# Altium schematic symbol library J SCH lib.SchLib: 465 symbols (part 4 of 5)
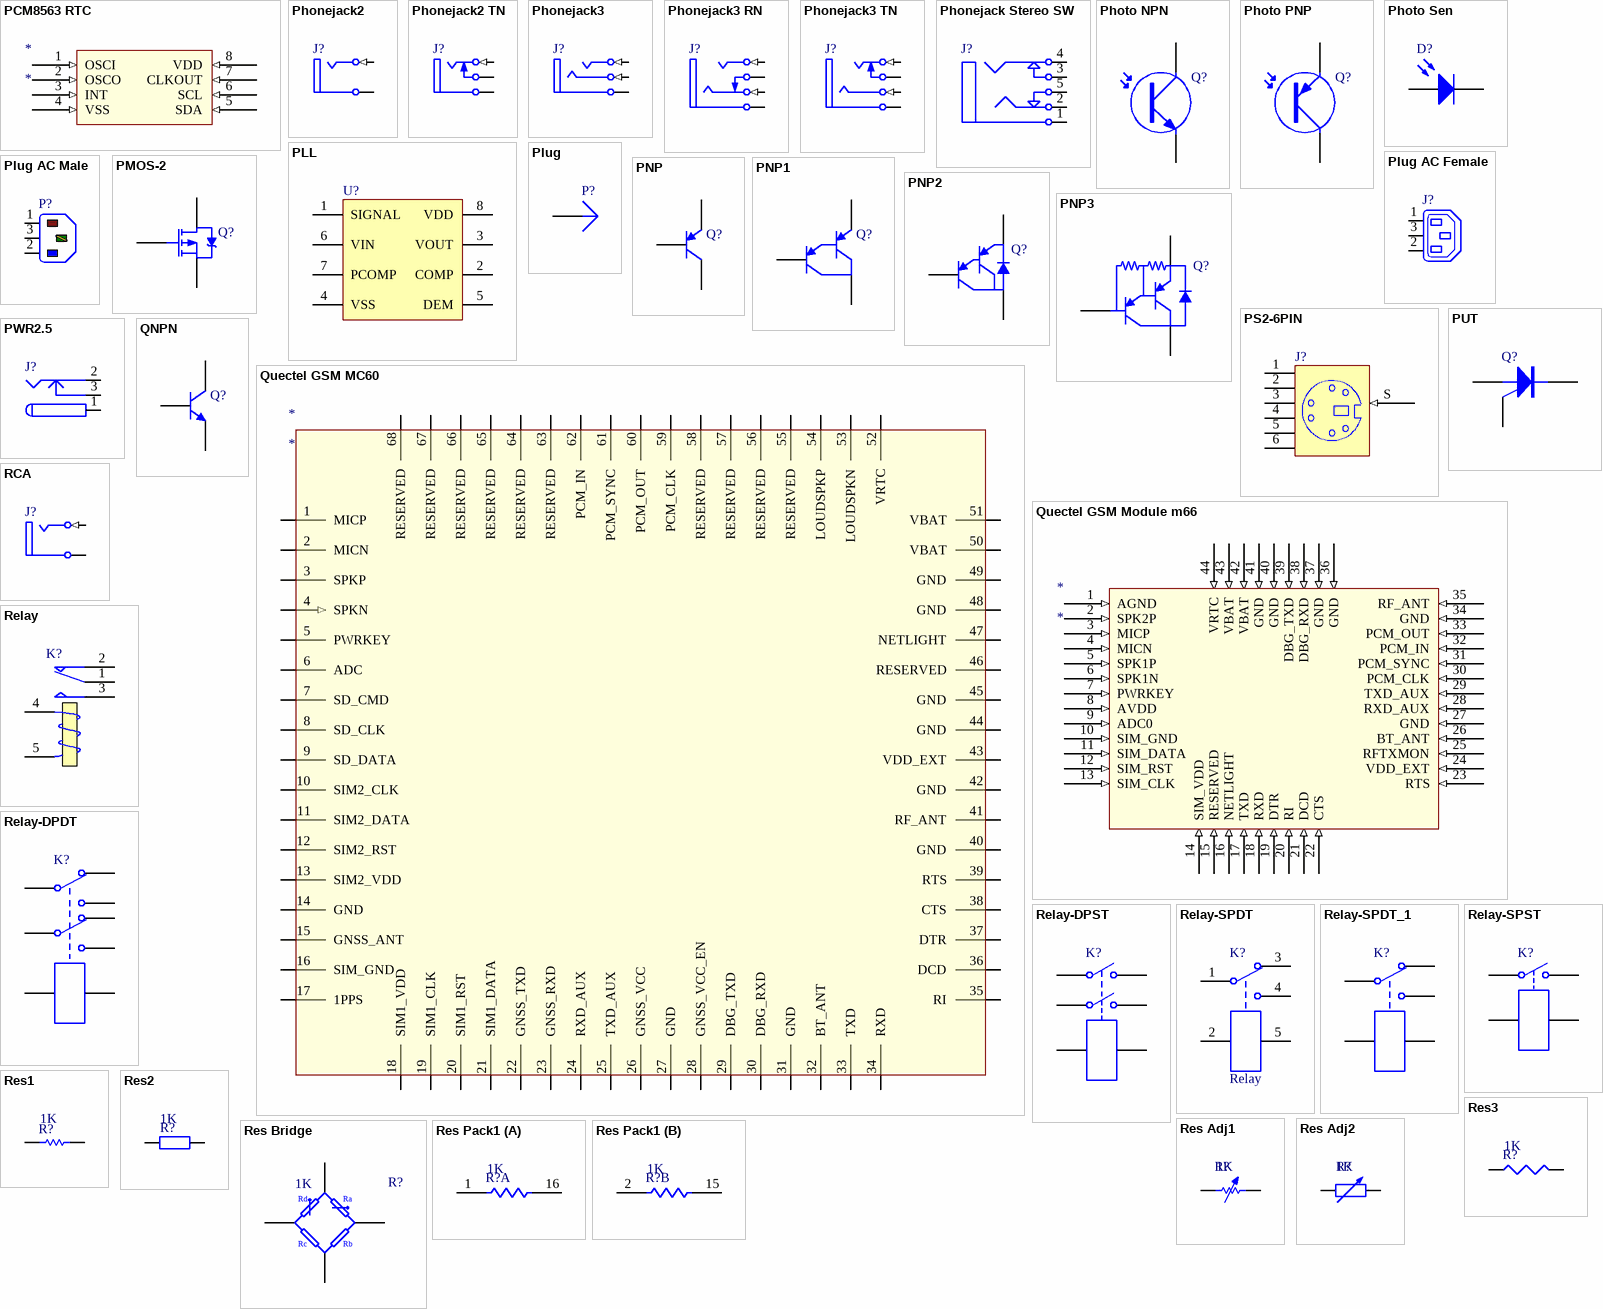
[diagram p18: symbols PCM8563 RTC to Res Pack1]

## Phonejack2 TN
designator J?
Jack Socket, 1/4" [6.5mm], Thru-Hole, Vertical, 2-Conductor with Tip closed; PackageDocument: 2003; PCB_Layout: Complies with manufacturer's recommendation.; DrillAndSlotSize: Corresponds to nominal value.; LatestRevisionDate: 15-Jul-2004; LatestRevisionNote: Component Replaced & renamed from "Phonejack".; DatasheetDocument: 2003; PackageReference: S1VS_SNB; Publisher: Altium Limited; ComponentLink1Description: Manufacturer Link; ComponentLink1URL: http://www.cliffuk.co.uk/
footprint JACK/6-V3A (Connector; Jack Socket, 1/4" [6.5mm], Thru-Hole, 3 Position, Vertical, Body 15.7 x 15.7 x 31 mm (WxTxH))
signal-integrity model JACK Socket
pins: 1 T (in) "Tip", 2 TN "Tip Normal (Break Contact)", 5 S (power) "Sleeve (Ground)"

## Phonejack3
designator J?
Jack Socket, 1/4" [6.5mm], Thru-Hole, Vertical, 3-Conductor Open Circuit (Non-Normalling); PackageDocument: 2003; PCB_Layout: Complies with manufacturer's recommendation.; DrillAndSlotSize: Corresponds to nominal value.; Published: 15-Jul-2004; LatestRevisionDate: 15-Jul-2004; LatestRevisionNote: Component Replaced.; DatasheetDocument: 2003; PackageReference: S1VS_SSS; Publisher: Altium Limited; ComponentLink1Description: Manufacturer Link; ComponentLink1URL: http://www.cliffuk.co.uk/
footprint JACK/6-V3 (Connector; Jack Socket, 1/4" [6.5mm], Thru-Hole, 3 Position, Vertical, Body 15.7 x 15.7 x 31 mm (WxTxH))
signal-integrity model JACK Socket
pins: 1 T (in) "Tip/Left Channel/(+)", 3 R (in) "Ring/Right Channel/(-)", 5 S (power) "Sleeve (Ground)"

## Phonejack3 RN
designator J?
Jack Socket, 1/4" [6.5mm], Thru-Hole, Vertical, 3-Conductor with Tip open & Ring closed; PackageDocument: 2003; PCB_Layout: Complies with manufacturer's recommendation.; DrillAndSlotSize: Corresponds to nominal value.; Published: 15-Jul-2004; DatasheetDocument: 2003; PackageReference: S1VS_SBS; Publisher: Altium Limited; ComponentLink1Description: Manufacturer Link; ComponentLink1URL: http://www.cliffuk.co.uk/
footprint JACK/6-V4A (Connector; Jack Socket, 1/4" [6.5mm], Thru-Hole, 4 Position, Vertical, Body 15.7 x 15.7 x 31 mm (WxTxH))
signal-integrity model JACK Socket
pins: 1 T (in) "Tip/Left Channel/(+)", 3 R (in) "Ring/Right Channel/(-)", 4 RN "Ring Normal (Break Contact)", 5 S (power) "Sleeve (Ground)"

## Phonejack3 TN
designator J?
Jack Socket, 1/4" [6.5mm], Thru-Hole, Vertical, 3-Conductor with Tip closed & Ring open; PackageDocument: 2003; PCB_Layout: Complies with manufacturer's recommendation.; DrillAndSlotSize: Corresponds to nominal value.; Published: 15-Jul-2004; DatasheetDocument: 2003; PackageReference: S1VS_SSB; Publisher: Altium Limited; ComponentLink1Description: Manufacturer Link; ComponentLink1URL: http://www.cliffuk.co.uk/
footprint JACK/6-V4 (Connector; Jack Socket, 1/4" [6.5mm], Thru-Hole, 4 Position, Vertical, Body 15.7 x 15.7 x 31 mm (WxTxH))
signal-integrity model JACK Socket
pins: 1 T (in) "Tip/Left Channel/(+)", 2 TN "Tip Normal (Break Contact)", 3 R (in) "Ring/Right Channel/(-)", 5 S (power) "Sleeve (Ground)"

## Phonejack Stereo SW
designator J?
3-Conductor Jack with 2 break contacts (normals) and 2 auxiliary make contacts; Published: 5-Jan-2004; LatestRevisionDate: 17-Dec-2003; LatestRevisionNote: PCB Footprint replaced.; DatasheetDocument: 07-Mar-2000; Publisher: Altium Limited; ComponentLink1Description: Manufacturer Link; ComponentLink1URL: http://domino.kycon.com/internet/Products.html
footprint ST-3150-5N (Connector; Stereo Jack, 3.5mm, 5 Position)
signal-integrity model Connector
pins: 1, 1A, 1B, 2, 2A, 2B, 3, 3A, 3B, 4, 4A, 4B, 5, 5A, 5B

## Photo NPN
designator Q?
NPN Phototransistor; Published: 24-Mar-1999; LatestRevisionDate: 17-Jul-2002; LatestRevisionNote: Re-released for DXP Platform.; PackageReference: TO-220_A; Publisher: Altium Limited; Code_JEDEC: TO-220-AC
footprint TO-220_A (TO, Thru-Hole, Vertical, Heatsink Mounted; 3 In-Line Leads (1 Absent); Pitch 2.54 mm)
pins: 1 C, 3 E

## Photo PNP
designator Q?
PNP Phototransistor; Published: 24-Mar-1999; LatestRevisionDate: 17-Jul-2002; LatestRevisionNote: Re-released for DXP Platform.; PackageReference: TO-220_A; Publisher: Altium Limited; Code_JEDEC: TO-220-AC
footprint TO-220_A (TO, Thru-Hole, Vertical, Heatsink Mounted; 3 In-Line Leads (1 Absent); Pitch 2.54 mm)
pins: 1 C, 3 E

## Photo Sen
designator D?
Photosensitive Diode; Published: 24-Mar-1999; LatestRevisionDate: 17-Jul-2002; LatestRevisionNote: Re-released for DXP Platform.; PackageReference: PIN2; Publisher: Altium Limited
footprint PIN2 (Photosensitive Diode; 2 Leads)
pins: 1 A, 2 K

## PLL
designator U?
Generic Phase Locked Loop; Published: 8-Jun-2000; LatestRevisionDate: 29-May-2009; LatestRevisionNote: IPC-7351 Footprint Added.; PackageVersion: May-1999; PackageReference: DB008; Publisher: Altium Limited; PackageDescription: 8-Pin Plastic Small Outline Package 0.65 mm Pitch; Code_JEDEC: MO-150-AA; Code_IPC: SOP65P780-8
footprint DB008_N (SOP, 8-Leads, Body 3x5.3mm, Pitch 0.65mm, IPC Medium Density)
footprint DB008_L (SOP, 8-Leads, Body 3x5.3mm, Pitch 0.65mm, IPC High Density)
footprint DB008_M (SOP, 8-Leads, Body 3x5.3mm, Pitch 0.65mm, IPC Low Density)
simulation model PLLx (Spice Subcircuit)
pins: 1 SIGNAL, 2 COMP, 3 VOUT, 4 VSS, 5 DEM, 6 VIN, 7 PCOMP, 8 VDD

## Plug
designator P?
Plug; LatestRevisionDate: 17-Jul-2002; LatestRevisionNote: Re-released for DXP Platform.; Publisher: Altium Limited
footprint PIN1 (Connector; Plug)
signal-integrity model Connector
pins: 1

## Plug AC Female
designator J?
IEC Mains Power Outlet, EN60 320-2-2 F Class I, PC Flange Rear Mount, Chassis Socket; PackageDocument: ver.80, 15-Sep-2003; MaximumRating: 10A, 250V a.c. (UL & CSA 15A, 250V a.c.); MountingFixtures: Not drawn on schematic symbol.; PCB_Layout: Complies with manufacturer's recommendation.; DrillSize: Corresponds to nominal value.; Published: 15-Jul-2004; LatestRevisionDate: 15-Jul-2004; LatestRevisionNote: Component Replaced & renamed from "Phonejack".; DatasheetDocument: ver.80, 15-Sep-2003; PackageReference: PX0675/PC; Publisher: Altium Limited; Terminations: P.C. Spills; ComponentLink1Description: Manufacturer Link; ComponentLink1URL: http://www.bulgin.co.uk/
footprint IEC7-2H3 (Mains Power Outlet, IEC60 320-2-2 F, PC Flange Rear Mount)
pins: 1 L (power) "Live (Active)", 2 N (power) "Neutral", 3 E (power) "Earth (Ground)"

## Plug AC Male
designator P?
IEC Mains Power Inlet, EN60 320-1 C14 Class I Cold Condition, PC Flange Rear Mount, Chassis Plug; PackageDocument: ver.80, 15-Sep-2003; MaximumRating: 10A, 250V a.c. (UL & CSA 15A, 250V a.c.); MountingFixtures: Not drawn on schematic symbol.; PCB_Layout: Complies with manufacturer's recommendation.; DrillSize: Corresponds to nominal value.; Note: IEC Color Scheme employed for L, N and E.; Published: 15-Jul-2004; LatestRevisionDate: 15-Jul-2004; LatestRevisionNote: Component Replaced.; DatasheetDocument: ver.80, 15-Sep-2003; PackageReference: PX0580/PC; Publisher: Altium Limited; Terminations: P.C. Spills; ComponentLink1Description: Manufacturer Link; ComponentLink1URL: http://www.bulgin.co.uk/
footprint IEC9.14-2H3 (Mains Power Inlet, IEC60 320-1 C14, PC Flange Rear Mount)
pins: 1 L (power) "Live (Active)", 2 N (power) "Neutral", 3 E (power) "Earth (Ground)"

## PMOS-2
designator Q?
P-Channel Power MOSFET; Note: Pin 4 not drawn and electrically connected to Pin 2.; Published: 8-Jun-2000; LatestRevisionDate: 17-Jul-2002; LatestRevisionNote: Re-released for DXP Platform.; DatasheetVersion: PD-9.390D; PackageVersion: Feb-1997; PackageReference: TO-220AB; Publisher: Altium Limited; PackageDescription: TO, Thru-Hole, Vertical, Heatsink Mounted; 3 In-Line Leads; Pitch 2.54 mm; ComponentLink1Description: Manufacturer Link; ComponentLink1URL: http://www.irf.com/
footprint TO-220AB (TO, Thru-Hole, Vertical, Heatsink Mounted; 3 In-Line Leads; Pitch 2.54 mm)
simulation model IRF9510 (Spice Subcircuit)
pins: 1 G, 2 D, 3 S

## PNP
designator Q?
PNP Bipolar Transistor; Published: 8-Jun-2000; LatestRevisionDate: 29-May-2009; LatestRevisionNote: IPC-7351 Footprint Added.; PackageVersion: Aug-1999; PackageReference: SOT-23B; Publisher: Altium Limited; PackageDescription: 3-Pin SOT-23 Package 0.95 mm Pitch, 2.4 mm Lead Span
footprint SOT-23B_N (SOT23, 3-Leads, Body 2.9x1.3mm, Pitch 0.95mm, Lead Span 2.4mm, IPC Medium Density)
footprint SOT-23B_L (SOT23, 3-Leads, Body 2.9x1.3mm, Pitch 0.95mm, Lead Span 2.4mm, IPC High Density)
footprint SOT-23B_M (SOT23, 3-Leads, Body 2.9x1.3mm, Pitch 0.95mm, Lead Span 2.4mm, IPC Low Density)
simulation model PNP
signal-integrity model PNP
pins: 1 C, 2 B, 3 E

## PNP1
designator Q?
PNP Darlington Bipolar Transistor; Published: 8-Jun-2000; LatestRevisionDate: 17-Jul-2002; LatestRevisionNote: Re-released for DXP Platform.; DatasheetVersion: May-1994; PackageVersion: 1995/1996; PackageReference: E3; Publisher: Altium Limited; PackageDescription: TO, Flat Index; 3 In-Line, Axial Leads; Body Dia. 4.6mm; Lead Dia. 0.5 mm (max); ComponentLink1Description: Manufacturer Link; ComponentLink1URL: http://www.zetex.com/
footprint E3 (TO, Flat Index; 3 In-Line, Axial Leads; Body Dia. 4.6mm; Lead Dia. 0.5 mm (max))
simulation model PNP1 (Spice Subcircuit)
signal-integrity model PNP
pins: 1 E, 2 B, 3 C

## PNP2
designator Q?
PNP Darlington Bipolar Transistor; Published: 8-Jun-2000; LatestRevisionDate: 17-Jul-2002; LatestRevisionNote: Re-released for DXP Platform.; PackageReference: TO-226-AE; Publisher: Altium Limited; PackageDescription: TO, Flat Index; 3 In-Line, Axial Leads; Body Dia. 4.8mm; Leads 0.55 x 0.51 mm (max); Code_JEDEC: TO-226-AA
footprint TO-226-AE (TO, Flat Index; 3 In-Line, Axial Leads; Body Dia. 4.8mm; Leads 0.55 x 0.51 mm (max))
simulation model PNP2 (Spice Subcircuit)
signal-integrity model PNP
pins: 1 C, 2 B, 3 E

## PNP3
designator Q?
PNP Darlington Bipolar Transistor; Published: 8-Jun-2000; LatestRevisionDate: 17-Jul-2002; LatestRevisionNote: Re-released for DXP Platform.; PackageReference: TO-226-AE; Publisher: Altium Limited; PackageDescription: TO, Flat Index; 3 In-Line, Axial Leads; Body Dia. 4.8mm; Leads 0.55 x 0.51 mm (max); Code_JEDEC: TO-226-AE
footprint TO-226-AE (TO, Flat Index; 3 In-Line, Axial Leads; Body Dia. 4.8mm; Leads 0.55 x 0.51 mm (max))
simulation model PNP3 (Spice Subcircuit)
signal-integrity model PNP
pins: 1 C, 2 B, 3 E

## PS2-6PIN
designator J?
6 Pin Through Hole PS2 Socket (Kycon P/N); Published: 17-Dec-2003; Publisher: Altium Limited; ComponentLink1Description: Manufacturer Link; ComponentLink1URL: http://www.oupiin.com/prodindx.html#Headers
footprint PS2-6PIN (PS2 Socket, 6 Pin, Through Hole)
signal-integrity model Connector
pins: 1, 2, 3, 4, 5, 6, S (in)

## PUT
designator Q?
Programmable Unijunction Transistor; Published: 8-Jun-2000; LatestRevisionDate: 17-Jul-2002; LatestRevisionNote: Re-released for DXP Platform.; PackageReference: TO-52; Publisher: Altium Limited; PackageDescription: Can; 3 Leads; Pin Circle Dia. 2.54 mm; Lead Dia. 0.48 mm (max)
footprint TO-52 (Can; 3 Leads; Pin Circle Dia. 2.54 mm; Lead Dia. 0.48 mm (max))
simulation model PUT (Spice Subcircuit)
pins: 1 A, 2 G, 3 K

## PWR2.5
designator J?
Low Voltage Power Supply Connector; Published: 17-Dec-2003; DatasheetDocument: 09-May-2002; Publisher: Altium Limited; ComponentLink1Description: Manufacturer Link; ComponentLink1URL: http://domino.kycon.com/internet/Products.html
footprint KLD-0202 (DC Power Jack, 2.5mm, KLD Series, PCB Mount)
signal-integrity model Connector
pins: 1 (power), 1A (power), 1B (power), 2 (power), 2A (power), 2B (power), 3 (power), 3A (power), 3B (power)

## QNPN
designator Q?
NPN Bipolar Transistor; Published: 8-Jun-2000; LatestRevisionDate: 29-May-2009; LatestRevisionNote: IPC-7351 Footprint Added.; PackageVersion: Aug-1999; PackageReference: SOT-23B; Publisher: Altium Limited; PackageDescription: 3-Pin SOT-23 Package 0.95 mm Pitch, 2.4 mm Lead Span
footprint SOT-23B_N (SOT23, 3-Leads, Body 2.9x1.3mm, Pitch 0.95mm, Lead Span 2.4mm, IPC Medium Density)
footprint SOT-23B_L (SOT23, 3-Leads, Body 2.9x1.3mm, Pitch 0.95mm, Lead Span 2.4mm, IPC High Density)
footprint SOT-23B_M (SOT23, 3-Leads, Body 2.9x1.3mm, Pitch 0.95mm, Lead Span 2.4mm, IPC Low Density)
simulation model QNPN (NPN)
signal-integrity model NPN
pins: 1 C, 2 B, 3 E

## Quectel GSM MC60
designator *
pins: 1 MICP, 2 MICN, 3 SPKP, 4 SPKN (in), 5 PWRKEY, 6 ADC, 7 SD_CMD, 8 SD_CLK, 9 SD_DATA, 10 SIM2_CLK, 11 SIM2_DATA, 12 SIM2_RST, 13 SIM2_VDD (power), 14 GND (power), 15 GNSS_ANT, 16 SIM_GND (power), 17 1PPS, 18 SIM1_VDD (power), 19 SIM1_CLK, 20 SIM1_RST, 21 SIM1_DATA, 22 GNSS_TXD, 23 GNSS_RXD, 24 RXD_AUX, 25 TXD_AUX, 26 GNSS_VCC (power), 27 GND (power), 28 GNSS_VCC_EN, 29 DBG_TXD, 30 DBG_RXD, 31 GND (power), 32 BT_ANT, 33 TXD, 34 RXD, 35 RI, 36 DCD, 37 DTR, 38 CTS, 39 RTS, 40 GND (power), 41 RF_ANT, 42 GND (power), 43 VDD_EXT (power), 44 GND (power), 45 GND (power), 46 RESERVED, 47 NETLIGHT, 48 GND (power), 49 GND (power), 50 VBAT (power), 51 VBAT (power), 52 VRTC (power), 53 LOUDSPKN, 54 LOUDSPKP, 55 RESERVED, 56 RESERVED, 57 RESERVED, 58 RESERVED, 59 PCM_CLK, 60 PCM_OUT, 61 PCM_SYNC, 62 PCM_IN, 63 RESERVED, 64 RESERVED, 65 RESERVED, 66 RESERVED, 67 RESERVED, 68 RESERVED

## Quectel GSM Module m66
designator *
pins: 1 AGND (in), 2 SPK2P (in), 3 MICP (in), 4 MICN (in), 5 SPK1P (in), 6 SPK1N (in), 7 PWRKEY (in), 8 AVDD (in), 9 ADC0 (in), 10 SIM_GND (in), 11 SIM_DATA (in), 12 SIM_RST (in), 13 SIM_CLK (in), 14 SIM_VDD (in), 15 RESERVED (in), 16 NETLIGHT (in), 17 TXD (in), 18 RXD (in), 19 DTR (in), 20 RI (in), 21 DCD (in), 22 CTS (in), 23 RTS (in), 24 VDD_EXT (in), 25 RFTXMON (in), 26 BT_ANT (in), 27 GND (in), 28 RXD_AUX (in), 29 TXD_AUX (in), 30 PCM_CLK (in), 31 PCM_SYNC (in), 32 PCM_IN (in), 33 PCM_OUT (in), 34 GND (in), 35 RF_ANT (in), 36 GND (in), 37 GND (in), 38 DBG_RXD (in), 39 DBG_TXD (in), 40 GND (in), 41 GND (in), 42 VBAT (in), 43 VBAT (in), 44 VRTC (in)

## RCA
designator J?
RCA Phono Jack, Right Angle, Thru-Hole, Snap-In; PCB_Layout: Complies with manufacturer's recommendation.; DrillAndSlotSize: Corresponds to nominal value.; Published: 15-Jul-2004; LatestRevisionDate: 15-Jul-2004; LatestRevisionNote: Component Replaced.; DatasheetDocument: 7-Jul-2000; PackageDocument: 7-Jul-2000; PackageReference: 161; Publisher: Altium Limited; ComponentLink1Description: Manufacturer Link; ComponentLink1URL: http://www.mouser.com/kobiconn/
footprint RCA/4.5-H2 (Two Conductor Jack (RCA), Right Angle, Thru-Hole, Body 10 x 10 x 13 mm (WxTxH))
signal-integrity model RCA
pins: 1A Ground (power) "Outer Shield (Sleeve)", 2B Signal (in) "Center Pin (Plug Tip)"

## Relay
designator K?
SPDT Relay; Published: 8-Jun-2000; LatestRevisionDate: 17-Jul-2002; LatestRevisionNote: Re-released for DXP Platform.; PackageReference: MODULE5B; Publisher: Altium Limited
footprint MODULE5B (DIP; 5 Round Pins; Row Space 15.24 mm; Pitch 2.54 mm)
simulation model SPDTRELAY (Spice Subcircuit)
pins: 1 COM, 2 NC, 3 NO, 4 T1, 5 T2

## Relay-DPDT
designator K?
Dual-Pole Dual-Throw Relay; Published: 24-Mar-1999; LatestRevisionDate: 17-Jul-2002; LatestRevisionNote: Re-released for DXP Platform.; PackageReference: DIP-P8; Publisher: Altium Limited; PackageDescription: Relay; 8 Leads
footprint DIP-P8 (Dual-Pole Dual-Throw Relay; 8 Leads)
simulation model DPDTRELAY (Spice Subcircuit)
pins: 1, 2, 3, 4, 5, 6, 7, 8

## Relay-DPST
designator K?
Dual-Pole Single-Throw Relay; Published: 24-Mar-1999; LatestRevisionDate: 17-Jul-2002; LatestRevisionNote: Re-released for DXP Platform.; PackageReference: MODULE6; Publisher: Altium Limited
footprint MODULE6 (DIP; 6 Round Pins; Row Space 20.32 mm; Pitch 2.54 mm)
simulation model DPSTRELAY (Spice Subcircuit)
pins: 1, 2, 3, 4, 5, 6

## Relay-SPDT
designator K?, comment Relay
Single Pole Dual Throw Relay 10 AMp
pins: 1, 2, 3, 4, 5

## Relay-SPDT_1
designator K?
Single-Pole Dual-Throw Relay; Published: 24-Mar-1999; LatestRevisionDate: 17-Jul-2002; LatestRevisionNote: Re-released for DXP Platform.; PackageReference: MODULE5B; Publisher: Altium Limited
footprint MODULE5B (DIP; 5 Round Pins; Row Space 15.24 mm; Pitch 2.54 mm)
simulation model SPDTRELAY (Spice Subcircuit)
pins: 1, 2, 3, 4, 5

## Relay-SPST
designator K?
Single-Pole Single-Throw Relay; Published: 24-Mar-1999; LatestRevisionDate: 17-Jul-2002; LatestRevisionNote: Re-released for DXP Platform.; PackageReference: MODULE4; Publisher: Altium Limited
footprint MODULE4 (DIP; 4 Round Pins; Row Space 27.94 mm; Pitch 15.24 mm)
simulation model SPSTRELAY (Spice Subcircuit)
pins: 1, 2, 3, 4

## Res1
designator R?  value 1K
Resistor; Published: 8-Jun-2000; LatestRevisionDate: 17-Jul-2002; LatestRevisionNote: Re-released for DXP Platform.; PackageReference: AXIAL-0.3; Publisher: Altium Limited; PackageDescription: Axial Device, Thru-Hole; 2 Leads; 0.3 in Pin Spacing
footprint AXIAL-0.3 (Axial Device, Thru-Hole; 2 Leads; 0.3 in Pin Spacing)
simulation model RESISTOR (Resistor)
signal-integrity model Res
pins: 1, 2

## Res2
designator R?  value 1K
Resistor; Published: 8-Jun-2000; LatestRevisionDate: 17-Jul-2002; LatestRevisionNote: Re-released for DXP Platform.; PackageReference: AXIAL-0.4; Publisher: Altium Limited; PackageDescription: Axial Device, Thru-Hole; 2 Leads; 0.4 in Pin Spacing
footprint AXIAL-0.4 (Axial Device, Thru-Hole; 2 Leads; 0.4 in Pin Spacing)
simulation model RESISTOR (Resistor)
signal-integrity model Res
pins: 1, 2

## Res3
designator R?  value 1K
Resistor; Published: 8-Jun-2000; LatestRevisionDate: 29-May-2009; LatestRevisionNote: IPC-7351 Footprint Added.; PackageReference: J1-0603; Publisher: Altium Limited; PackageDescription: Chip Resistor
footprint J1-0603 (Chip Resistor, Body 1.6x0.8mm, IPC High Density)
footprint 14-1210 (Chip Resistor, Body 3.2x2.5mm, IPC High Density)
footprint 12Z-2010 (Chip Resistor, Body 5.0x2.5mm, IPC High Density)
footprint RESC6332 (Chip Resistor, Body 6.3x3.2mm, IPC High Density)
simulation model RESISTOR (Resistor)
signal-integrity model Res
pins: 1, 2

## Res Adj1
designator R?  value 1K
Variable Resistor; Set Position: 0.5; Published: 8-Jun-2000; LatestRevisionDate: 17-Jul-2002; LatestRevisionNote: Re-released for DXP Platform.; PackageReference: AXIAL-0.7; Publisher: Altium Limited; PackageDescription: Axial Device, Thru-Hole; 2 Leads; 0.7 in Pin Spacing
footprint AXIAL-0.7 (Axial Device, Thru-Hole; 2 Leads; 0.7 in Pin Spacing)
simulation model VRES (Variable Resistor)
signal-integrity model Res Adj
pins: 1, 2

## Res Adj2
designator R?  value 1K
Variable Resistor; Set Position: 0.5; Published: 8-Jun-2000; LatestRevisionDate: 17-Jul-2002; LatestRevisionNote: Re-released for DXP Platform.; PackageReference: AXIAL-0.6; Publisher: Altium Limited; PackageDescription: Axial Device, Thru-Hole; 2 Leads; 0.6 in Pin Spacing
footprint AXIAL-0.6 (Axial Device, Thru-Hole; 2 Leads; 0.6 in Pin Spacing)
simulation model VRES (Variable Resistor)
signal-integrity model Res Adj
pins: 1, 2

## Res Bridge
designator R?  value 1K
Resistor Bridge; Published: 24-Mar-1999; LatestRevisionDate: 17-Jul-2002; LatestRevisionNote: Re-released for DXP Platform.; PackageReference: P04A; Publisher: Altium Limited
footprint P04A (TO, Thru-Hole, Vertical, Heatsink Mounted; 4 In-Line Leads; Pitch 2.54 mm)
signal-integrity model Res Bridge
pins: 1, 2, 3, 4
text: Rd; Ra; Rc; Rb

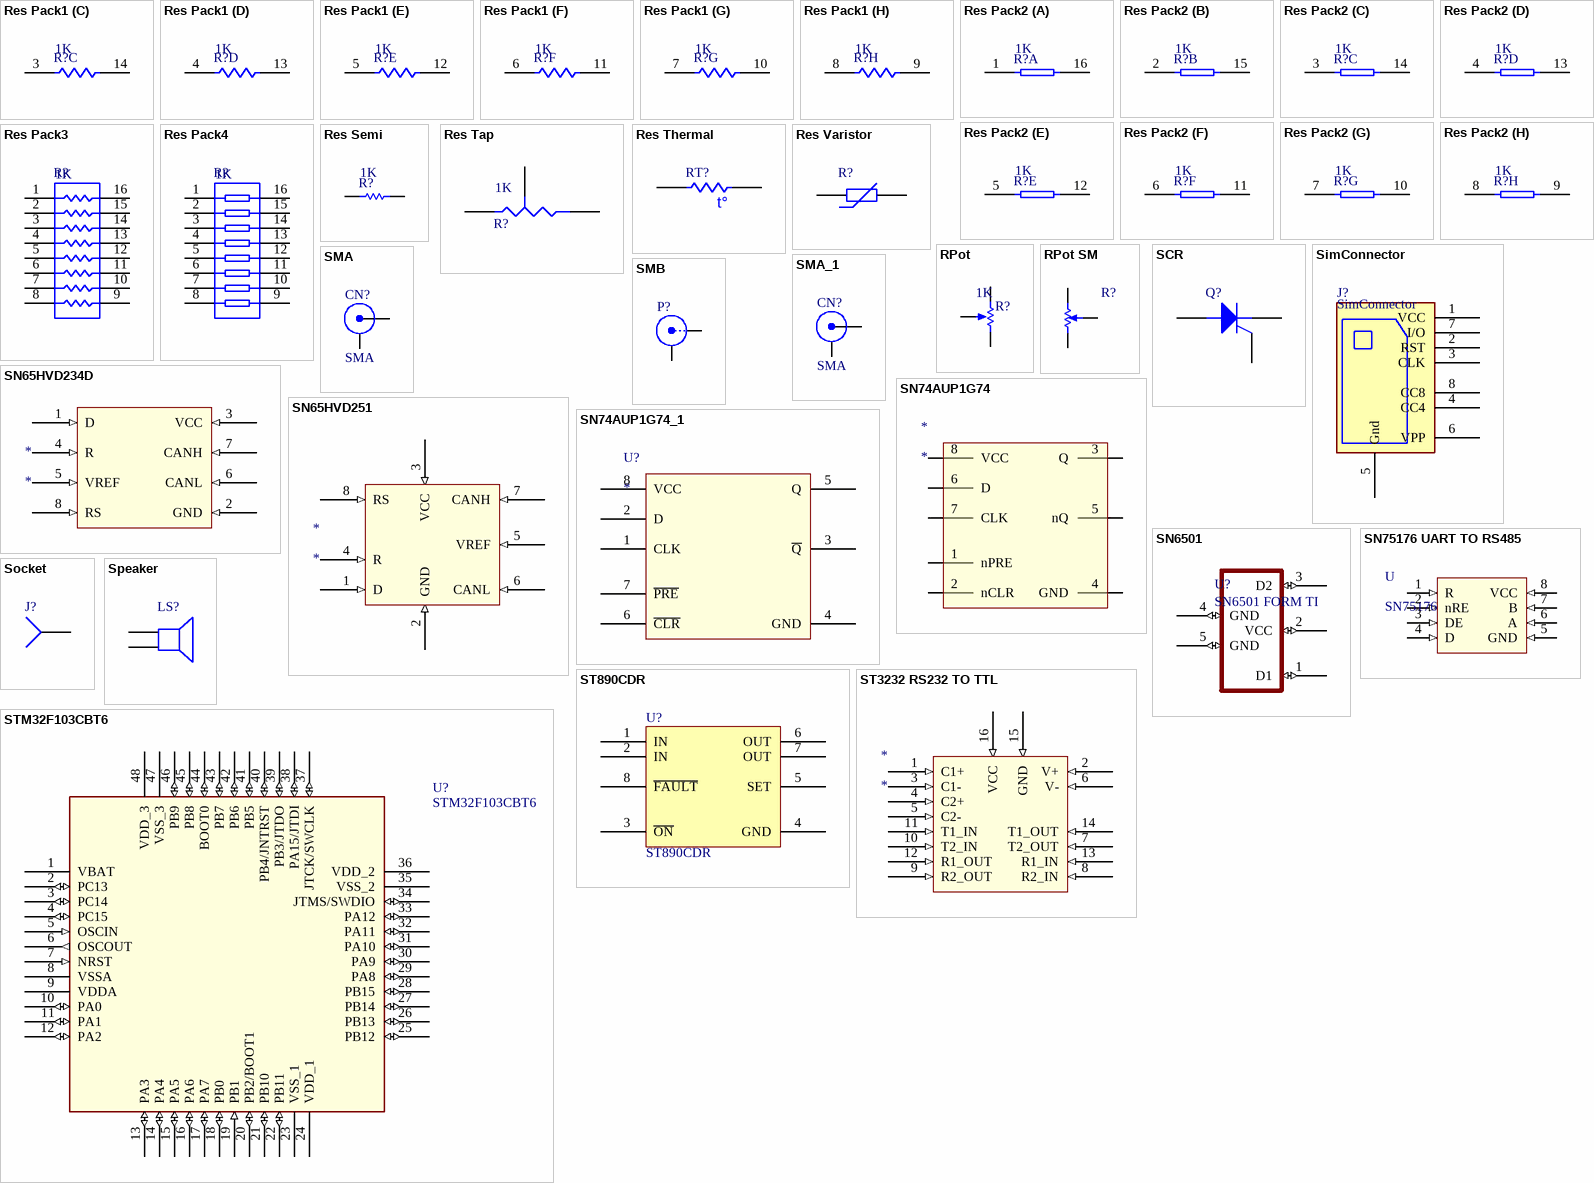
[diagram p10: symbols Res Pack1 to STM32F103CBT6]

## Res Pack1
designator R?  value 1K
Isolated Resistor Network - Parts; Sim Note: Enter the Resistance value into parameter field.; Published: 24-Mar-1999; LatestRevisionDate: 29-May-2009; LatestRevisionNote: IPC-7351 Footprint Added.; PackageReference: SOIC16; Publisher: Altium Limited; PackageDescription: 16-Pin Small Outline Integrated Circuit 1.27 mm Pitch; Code_JEDEC: MS-012-AC; Code_IPC: SOIC127P600-16
footprint SOIC16_N (SOIC, 16-Leads, Body 9.9x3.9mm, Pitch 1.27mm, IPC Medium Density)
footprint SOIC16_L (SOIC, 16-Leads, Body 9.9x3.9mm, Pitch 1.27mm, IPC High Density)
footprint SOIC16_M (SOIC, 16-Leads, Body 9.9x3.9mm, Pitch 1.27mm, IPC Low Density)
simulation model RESISTOR (Resistor)
signal-integrity model Res Pack
part A pins: 1, 16
part B pins: 2, 15
part C pins: 3, 14
part D pins: 4, 13
part E pins: 5, 12
part F pins: 6, 11
part G pins: 7, 10
part H pins: 8, 9

## Res Pack2
designator R?  value 1K
Isolated Resistor Network - Parts; Sim Note: Enter the Resistance value into parameter field.; Published: 24-Mar-1999; LatestRevisionDate: 17-Jul-2002; LatestRevisionNote: Re-released for DXP Platform.; PackageReference: DIP-16; Publisher: Altium Limited; Code_JEDEC: MO-001-AC
footprint DIP-16 (DIP; 16 Leads; Row Spacing 7.62 mm; Pitch 2.54 mm)
simulation model RESISTOR (Resistor)
signal-integrity model Res Pack
part A pins: 1, 16
part B pins: 2, 15
part C pins: 3, 14
part D pins: 4, 13
part E pins: 5, 12
part F pins: 6, 11
part G pins: 7, 10
part H pins: 8, 9

## Res Pack3
designator R?  value 1K
Isolated Resistor Network; Published: 24-Mar-1999; LatestRevisionDate: 29-May-2009; LatestRevisionNote: IPC-7351 Footprint Added.; PackageReference: SO-16; Publisher: Altium Limited; PackageDescription: 16-Pin Small Outline Integrated Circuit 1.27 mm Pitch; Code_JEDEC: MS-012-AC; Code_IPC: SOIC127P600-16
footprint SO-16_N (SOIC, 16-Leads, Body 9.9x3.9mm, Pitch 1.27mm, IPC Medium Density)
footprint SO-16_L (SOIC, 16-Leads, Body 9.9x3.9mm, Pitch 1.27mm, IPC High Density)
footprint SO-16_M (SOIC, 16-Leads, Body 9.9x3.9mm, Pitch 1.27mm, IPC Low Density)
simulation model respack_8 (Spice Subcircuit)
pins: 1, 2, 3, 4, 5, 6, 7, 8, 9, 10, 11, 12, 13, 14, 15, 16

## Res Pack4
designator R?  value 1K
Isolated Resistor Network; Published: 24-Mar-1999; LatestRevisionDate: 29-May-2009; LatestRevisionNote: IPC-7351 Footprint Added.; PackageVersion: Oct-2003; PackageReference: SSOP16; Publisher: Altium Limited; PackageDescription: 16-Pin Plastic Small Outline Package 0.65 mm Pitch; Code_JEDEC: MO-150-AC; Code_IPC: SOP65P780-16
footprint SSOP16_N (SOP, 16-Leads, Body 6.2x5.3mm, Pitch 0.65mm, IPC Medium Density)
footprint SSOP16_L (SOP, 16-Leads, Body 6.2x5.3mm, Pitch 0.65mm, IPC High Density)
footprint SSOP16_M (SOP, 16-Leads, Body 6.2x5.3mm, Pitch 0.65mm, IPC Low Density)
simulation model respack_8 (Spice Subcircuit)
pins: 1, 2, 3, 4, 5, 6, 7, 8, 9, 10, 11, 12, 13, 14, 15, 16

## Res Semi
designator R?  value 1K
Semiconductor Resistor; Published: 8-Jun-2000; LatestRevisionDate: 17-Jul-2002; LatestRevisionNote: Re-released for DXP Platform.; PackageReference: AXIAL-0.5; Publisher: Altium Limited; PackageDescription: Axial Device, Thru-Hole; 2 Leads; 0.5 in Pin Spacing
footprint AXIAL-0.5 (Axial Device, Thru-Hole; 2 Leads; 0.5 in Pin Spacing)
simulation model RES (Semiconductor Resistor)
signal-integrity model Res Semi
pins: 1, 2

## Res Tap
designator R?  value 1K
Tapped Resistor; Sim Note: Enter the Resistance value and the set point into parameter fields.; Set Position: 0.5; Published: 24-Mar-1999; LatestRevisionDate: 17-Jul-2002; LatestRevisionNote: Re-released for DXP Platform.; PackageReference: VR3; Publisher: Altium Limited; PackageDescription: Variable Resistor, Thru-Hole; 3 Leads
footprint VR3 (Thru-Hole; 3 Leads)
simulation model POT (Potentiometer)
signal-integrity model Res Tap
pins: 1 A, 2 B, 3 TAP

## Res Thermal
designator RT?
Thermistor; Published: 24-Mar-1999; LatestRevisionDate: 29-May-2009; LatestRevisionNote: IPC-7351 Footprint Added.; PackageVersion: Mar-2003; PackageReference: 6-0805; Publisher: Altium Limited; PackageDescription: Chip Resistor 0805 Case Size; Code_IPC: RESC2012
footprint 6-0805_N (Chip Resistor, Body 2.0x1.2mm, IPC Medium Density)
footprint 6-0805_L (Chip Resistor, Body 2.0x1.2mm, IPC High Density)
footprint 6-0805_M (Chip Resistor, Body 2.0x1.2mm, IPC Low Density)
pins: 1, 2
text: t°

## Res Varistor
designator R?
Varistor (Voltage-Sensitive Resistor); Published: 24-Mar-1999; LatestRevisionDate: 29-May-2009; LatestRevisionNote: IPC-7351 Footprint Added.; PackageVersion: Mar-2003; PackageReference: 6-0805; Publisher: Altium Limited; PackageDescription: Chip Resistor 0805 Case Size; Code_IPC: RESC2012
footprint 6-0805_N (Chip Resistor, Body 2.0x1.2mm, IPC Medium Density)
footprint 6-0805_L (Chip Resistor, Body 2.0x1.2mm, IPC High Density)
footprint 6-0805_M (Chip Resistor, Body 2.0x1.2mm, IPC Low Density)
pins: 1, 2

## RPot
designator R?  value 1K
Potentiometer; Sim Note: Enter the Resistance value and the set point into parameter fields.; Set Position: 0.5; Published: 8-Jun-2000; LatestRevisionDate: 17-Jul-2002; LatestRevisionNote: Re-released for DXP Platform.; PackageReference: VR5; Publisher: Altium Limited; PackageDescription: Variable Resistor, Thru-Hole; 3 Leads
footprint VR5 (Thru-Hole; 3 Leads)
simulation model POT (Potentiometer)
pins: 1 TOP, 2 BOT, 3 TAP
1 alternate drawing of the same symbol

## RPot SM
designator R?
Square Trimming Potentiometer; Published: 17-Dec-2003; DatasheetVersion: Oct-2003; PackageReference: POT4MM-2; Publisher: Altium Limited; PackageDescription: Square Trimming Potentiometer; ComponentLink1Description: Manufacturer Link; ComponentLink1URL: http://bourns.com/2/search.html
footprint POT4MM-2 (Square Trimming Potentiometer)
pins: CCW -, CW +, W
1 alternate drawing of the same symbol

## SCR
designator Q?
Silicon Controlled Rectifier; Published: 8-Jun-2000; LatestRevisionDate: 17-Jul-2002; LatestRevisionNote: Re-released for DXP Platform.; PackageReference: TO-220-AB; Publisher: Altium Limited; Code_JEDEC: TO-220-AB
footprint TO-220-AB (TO, Thru-Hole, Vertical, Heatsink Mounted; 3 In-Line Leads; Pitch 2.54 mm)
simulation model SCR (Spice Subcircuit)
pins: 1 A, 2 G, 3 K

## SimConnector
designator J?
footprint Sim-Connector
footprint Sim-Connector
pins: 1 VCC, 2 RST, 3 CLK, 4 CC4, 5 Gnd, 6 VPP, 7 I/O, 8 CC8

## SMA
designator CN?
footprint SMA
footprint SMA_COMBO_A
footprint SMA_COMBO_B
footprint SMA_COMBO_B
pins: 1 X, 2 Y

## SMA_1
designator CN?, comment SMA
footprint SMA
footprint SMA_COMBO_A
footprint SMA_COMBO_B
footprint SMA_COMBO_B
pins: 1 X, 2 Y

## SMB
designator P?
SMB Straight Connector; LatestRevisionDate: 17-Jul-2002; LatestRevisionNote: Re-released for DXP Platform.; Publisher: Altium Limited
footprint SMB_V-RJ45 (Connector; SMB Straight)
signal-integrity model Connector
pins: 1 X, 2 Y

## SN65HVD234D
designator *
pins: 1 D (in), 2 GND (in), 3 VCC (in), 4 R (in), 5 VREF (in), 6 CANL (in), 7 CANH (in), 8 RS (in)

## SN65HVD251
designator *
pins: 1 D (in), 2 GND (in), 3 VCC (in), 4 R (in), 5 VREF (in), 6 CANL (in), 7 CANH (in), 8 RS (in)

## SN74AUP1G74
designator *
pins: 1 nPRE, 2 nCLR, 3 Q, 4 GND, 5 nQ, 6 D, 7 CLK, 8 VCC

## SN74AUP1G74_1
designator U?
SN74AUP1G74 8PIN VSSOP
pins: 1 CLK, 2 D, 3 ~{Q}, 4 GND, 5 Q, 6 ~{CLR}, 7 ~{PRE}, 8 VCC

## SN6501
designator U?, comment SN6501 FORM TI
pins: 1 D1 (io), 2 VCC (io), 3 D2 (io), 4 GND (io), 5 GND (io)

## SN75176 UART TO RS485
designator U, comment SN75176
UART TO RS485 TRANSRECIEVER
pins: 1 R (in), 2 nRE (in), 3 DE (in), 4 D (in), 5 GND (in), 6 A (in), 7 B (in), 8 VCC (in)

## Socket
designator J?
Socket; LatestRevisionDate: 17-Jul-2002; LatestRevisionNote: Re-released for DXP Platform.; Publisher: Altium Limited
footprint PIN1 (Connector; Socket)
signal-integrity model Connector
pins: 1

## Speaker
designator LS?
Loudspeaker; Published: 24-Mar-1999; LatestRevisionDate: 17-Jul-2002; LatestRevisionNote: Re-released for DXP Platform.; PackageReference: PIN2; Publisher: Altium Limited
footprint PIN2 (Loudspeaker; 2 Leads)
pins: 1, 2

## ST890CDR
designator U?
Manufacturer: ST; Manufacturer P/N: ST890R; ECCN_US/UE: EAR99/NEC; Provided by: STM; Fitted: *; Order Code Digikey: *; Order Code Farnell: *; Order Code RS: *; Value: *
footprint SOIC8_1R27_4R9X6 (1.2 A current limited high-side power switch with thermal shutdown)
pins: 1 IN, 2 IN, 3 ~{ON}, 4 GND, 5 SET, 6 OUT, 7 OUT, 8 ~{FAULT}

## ST3232 RS232 TO TTL
designator *
pins: 1 C1+ (in), 2 V+ (in), 3 C1- (in), 4 C2+ (in), 5 C2- (in), 6 V- (in), 7 T2_OUT (in), 8 R2_IN (in), 9 R2_OUT (in), 10 T2_IN (in), 11 T1_IN (in), 12 R1_OUT (in), 13 R1_IN (in), 14 T1_OUT (in), 15 GND (in), 16 VCC (in)

## STM32F103CBT6
designator U?
Medium-density performance line ARM-based 32-bit MCU with 64KB Flash; Manufacturer P/N: STM32F103C8T6; Manufacturer: STM; Ref STM: 9175981; Provided by: ST; ECCN_US/EU: 3A991A2/NEC; Order: STM32F103C8T6; Fitted: *; Order Code Digikey: *; Order Code Farnell: *; Order Code RS: *; Value: *
footprint QFP48 7X7
pins: 1 VBAT (power), 2 PC13 (io), 3 PC14 (io), 4 PC15 (io), 5 OSCIN (in), 6 OSCOUT (out), 7 NRST (in), 8 VSSA (power), 9 VDDA (power), 10 PA0 (io), 11 PA1 (io), 12 PA2 (io), 13 PA3 (io), 14 PA4 (io), 15 PA5 (io), 16 PA6 (io), 17 PA7 (io), 18 PB0 (io), 19 PB1 (in), 20 PB2/BOOT1 (io), 21 PB10 (io), 22 PB11 (io), 23 VSS_1 (power), 24 VDD_1 (power), 25 PB12 (io), 26 PB13 (io), 27 PB14 (io), 28 PB15 (io), 29 PA8 (io), 30 PA9 (io), 31 PA10 (io), 32 PA11 (io), 33 PA12 (io), 34 JTMS/SWDIO (io), 35 VSS_2 (power), 36 VDD_2 (power), 37 JTCK/SWCLK (io), 38 PA15/JTDI (io), 39 PB3/JTDO (io), 40 PB4/JNTRST (io), 41 PB5 (io), 42 PB6 (io), 43 PB7 (io), 44 BOOT0 (io), 45 PB8 (io), 46 PB9 (io), 47 VSS_3 (power), 48 VDD_3 (power)

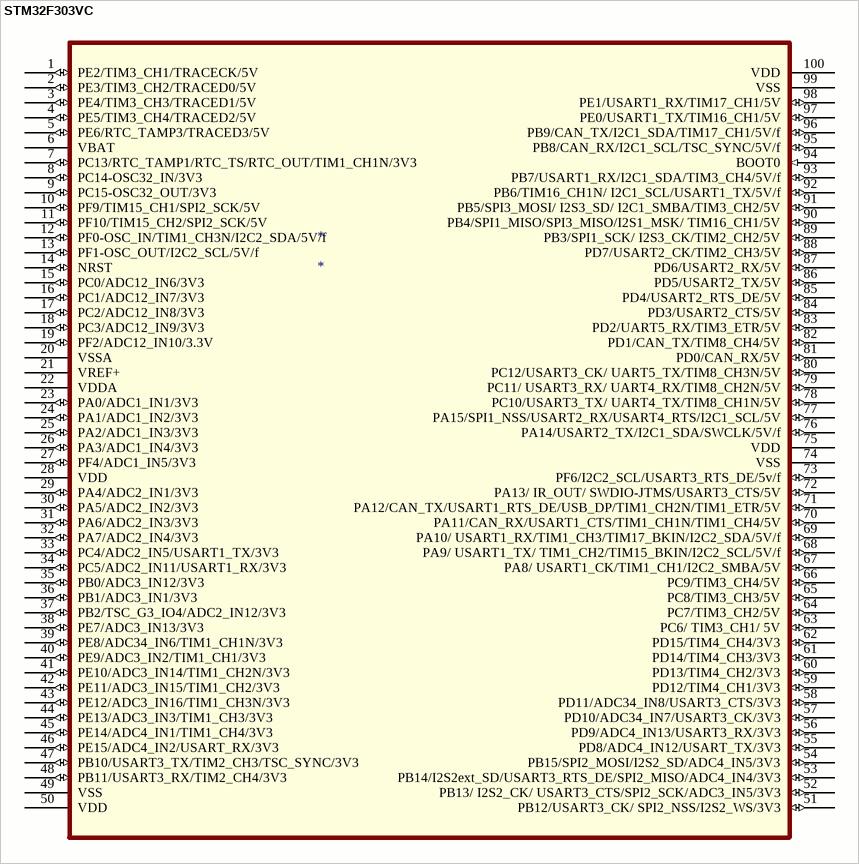
[diagram p11: symbol STM32F303VC]

## STM32F303VC
designator *
pins: 1 PE2/TIM3_CH1/TRACECK/5V (io), 2 PE3/TIM3_CH2/TRACED0/5V (io), 3 PE4/TIM3_CH3/TRACED1/5V (io), 4 PE5/TIM3_CH4/TRACED2/5V (io), 5 PE6/RTC_TAMP3/TRACED3/5V (io), 6 VBAT (power), 7 PC13/RTC_TAMP1/RTC_TS/RTC_OUT/TIM1_CH1N/3V3 (io), 8 PC14-OSC32_IN/3V3 (io), 9 PC15-OSC32_OUT/3V3 (io), 10 PF9/TIM15_CH1/SPI2_SCK/5V (io), 11 PF10/TIM15_CH2/SPI2_SCK/5V (io), 12 PF0-OSC_IN/TIM1_CH3N/I2C2_SDA/5V/f (io), 13 PF1-OSC_OUT/I2C2_SCL/5V/f (io), 14 NRST (io), 15 PC0/ADC12_IN6/3V3 (io), 16 PC1/ADC12_IN7/3V3 (io), 17 PC2/ADC12_IN8/3V3 (io), 18 PC3/ADC12_IN9/3V3 (io), 19 PF2/ADC12_IN10/3.3V (io), 20 VSSA (power), 21 VREF+ (power), 22 VDDA (power), 23 PA0/ADC1_IN1/3V3 (io), 24 PA1/ADC1_IN2/3V3 (io), 25 PA2/ADC1_IN3/3V3 (io), 26 PA3/ADC1_IN4/3V3 (io), 27 PF4/ADC1_IN5/3V3 (io), 28 VDD (power), 29 PA4/ADC2_IN1/3V3 (io), 30 PA5/ADC2_IN2/3V3 (io), 31 PA6/ADC2_IN3/3V3 (io), 32 PA7/ADC2_IN4/3V3 (io), 33 PC4/ADC2_IN5/USART1_TX/3V3 (io), 34 PC5/ADC2_IN11/USART1_RX/3V3 (io), 35 PB0/ADC3_IN12/3V3 (io), 36 PB1/ADC3_IN1/3V3 (io), 37 PB2/TSC_G3_IO4/ADC2_IN12/3V3 (io), 38 PE7/ADC3_IN13/3V3 (io), 39 PE8/ADC34_IN6/TIM1_CH1N/3V3 (io), 40 PE9/ADC3_IN2/TIM1_CH1/3V3 (io), 41 PE10/ADC3_IN14/TIM1_CH2N/3V3 (io), 42 PE11/ADC3_IN15/TIM1_CH2/3V3 (io), 43 PE12/ADC3_IN16/TIM1_CH3N/3V3 (io), 44 PE13/ADC3_IN3/TIM1_CH3/3V3 (io), 45 PE14/ADC4_IN1/TIM1_CH4/3V3 (io), 46 PE15/ADC4_IN2/USART_RX/3V3 (io), 47 PB10/USART3_TX/TIM2_CH3/TSC_SYNC/3V3 (io), 48 PB11/USART3_RX/TIM2_CH4/3V3 (io), 49 VSS, 50 VDD, 51 PB12/USART3_CK/ SPI2_NSS/I2S2_WS/3V3 (io), 52 PB13/ I2S2_CK/ USART3_CTS/SPI2_SCK/ADC3_IN5/3V3 (io), 53 PB14/I2S2ext_SD/USART3_RTS_DE/SPI2_MISO/ADC4_IN4/3V3 (io), 54 PB15/SPI2_MOSI/I2S2_SD/ADC4_IN5/3V3 (io), 55 PD8/ADC4_IN12/USART_TX/3V3 (io), 56 PD9/ADC4_IN13/USART3_RX/3V3 (io), 57 PD10/ADC34_IN7/USART3_CK/3V3 (io), 58 PD11/ADC34_IN8/USART3_CTS/3V3 (io), 59 PD12/TIM4_CH1/3V3 (io), 60 PD13/TIM4_CH2/3V3 (io), 61 PD14/TIM4_CH3/3V3 (io), 62 PD15/TIM4_CH4/3V3 (io), 63 PC6/ TIM3_CH1/ 5V (io), 64 PC7/TIM3_CH2/5V (io), 65 PC8/TIM3_CH3/5V (io), 66 PC9/TIM3_CH4/5V (io), 67 PA8/ USART1_CK/TIM1_CH1/I2C2_SMBA/5V (io), 68 PA9/ USART1_TX/ TIM1_CH2/TIM15_BKIN/I2C2_SCL/5V/f (io), 69 PA10/ USART1_RX/TIM1_CH3/TIM17_BKIN/I2C2_SDA/5V/f (io), 70 PA11/CAN_RX/USART1_CTS/TIM1_CH1N/TIM1_CH4/5V (io), 71 PA12/CAN_TX/USART1_RTS_DE/USB_DP/TIM1_CH2N/TIM1_ETR/5V (io), 72 PA13/ IR_OUT/ SWDIO-JTMS/USART3_CTS/5V (io), 73 PF6/I2C2_SCL/USART3_RTS_DE/5v/f (io), 74 VSS (power), 75 VDD (power), 76 PA14/USART2_TX/I2C1_SDA/SWCLK/5V/f (io), 77 PA15/SPI1_NSS/USART2_RX/USART4_RTS/I2C1_SCL/5V (io), 78 PC10/USART3_TX/ UART4_TX/TIM8_CH1N/5V (io), 79 PC11/ USART3_RX/ UART4_RX/TIM8_CH2N/5V (io), 80 PC12/USART3_CK/ UART5_TX/TIM8_CH3N/5V (io), 81 PD0/CAN_RX/5V (io), 82 PD1/CAN_TX/TIM8_CH4/5V (io), 83 PD2/UART5_RX/TIM3_ETR/5V (io), 84 PD3/USART2_CTS/5V (io), 85 PD4/USART2_RTS_DE/5V (io), 86 PD5/USART2_TX/5V (io), 87 PD6/USART2_RX/5V (io), 88 PD7/USART2_CK/TIM2_CH3/5V (io), 89 PB3/SPI1_SCK/ I2S3_CK/TIM2_CH2/5V (io), 90 PB4/SPI1_MISO/SPI3_MISO/I2S1_MSK/ TIM16_CH1/5V (io), 91 PB5/SPI3_MOSI/ I2S3_SD/ I2C1_SMBA/TIM3_CH2/5V (io), 92 PB6/TIM16_CH1N/ I2C1_SCL/USART1_TX/5V/f (io), 93 PB7/USART1_RX/I2C1_SDA/TIM3_CH4/5V/f (io), 94 BOOT0 (in), 95 PB8/CAN_RX/I2C1_SCL/TSC_SYNC/5V/f (io), 96 PB9/CAN_TX/I2C1_SDA/TIM17_CH1/5V/f (io), 97 PE0/USART1_TX/TIM16_CH1/5V (io), 98 PE1/USART1_RX/TIM17_CH1/5V (io), 99 VSS (power), 100 VDD (power)

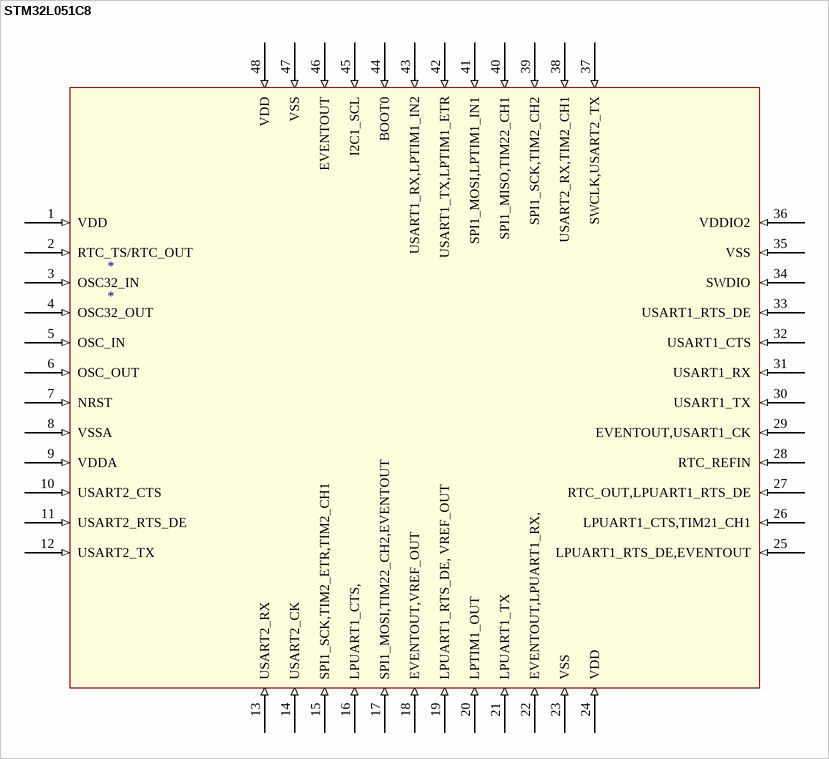
[diagram p12: symbol STM32L051C8]

## STM32L051C8
designator *
pins: 1 VDD (in), 2 RTC_TS/RTC_OUT (in), 3 OSC32_IN (in), 4 OSC32_OUT (in), 5 OSC_IN (in), 6 OSC_OUT (in), 7 NRST (in), 8 VSSA (in), 9 VDDA (in), 10 USART2_CTS (in), 11 USART2_RTS_DE (in), 12 USART2_TX (in), 13 USART2_RX (in), 14 USART2_CK (in), 15 SPI1_SCK,TIM2_ETR,TIM2_CH1 (in), 16 LPUART1_CTS, (in), 17 SPI1_MOSI,TIM22_CH2,EVENTOUT (in), 18 EVENTOUT,VREF_OUT (in), 19 LPUART1_RTS_DE, VREF_OUT (in), 20 LPTIM1_OUT (in), 21 LPUART1_TX (in), 22 EVENTOUT,LPUART1_RX, (in), 23 VSS (in), 24 VDD (in), 25 LPUART1_RTS_DE,EVENTOUT (in), 26 LPUART1_CTS,TIM21_CH1 (in), 27 RTC_OUT,LPUART1_RTS_DE (in), 28 RTC_REFIN (in), 29 EVENTOUT,USART1_CK (in), 30 USART1_TX (in), 31 USART1_RX (in), 32 USART1_CTS (in), 33 USART1_RTS_DE (in), 34 SWDIO (in), 35 VSS (in), 36 VDDIO2 (in), 37 SWCLK,USART2_TX (in), 38 USART2_RX,TIM2_CH1 (in), 39 SPI1_SCK,TIM2_CH2 (in), 40 SPI1_MISO,TIM22_CH1 (in), 41 SPI1_MOSI,LPTIM1_IN1 (in), 42 USART1_TX,LPTIM1_ETR (in), 43 USART1_RX,LPTIM1_IN2 (in), 44 BOOT0 (in), 45 I2C1_SCL (in), 46 EVENTOUT (in), 47 VSS (in), 48 VDD (in)

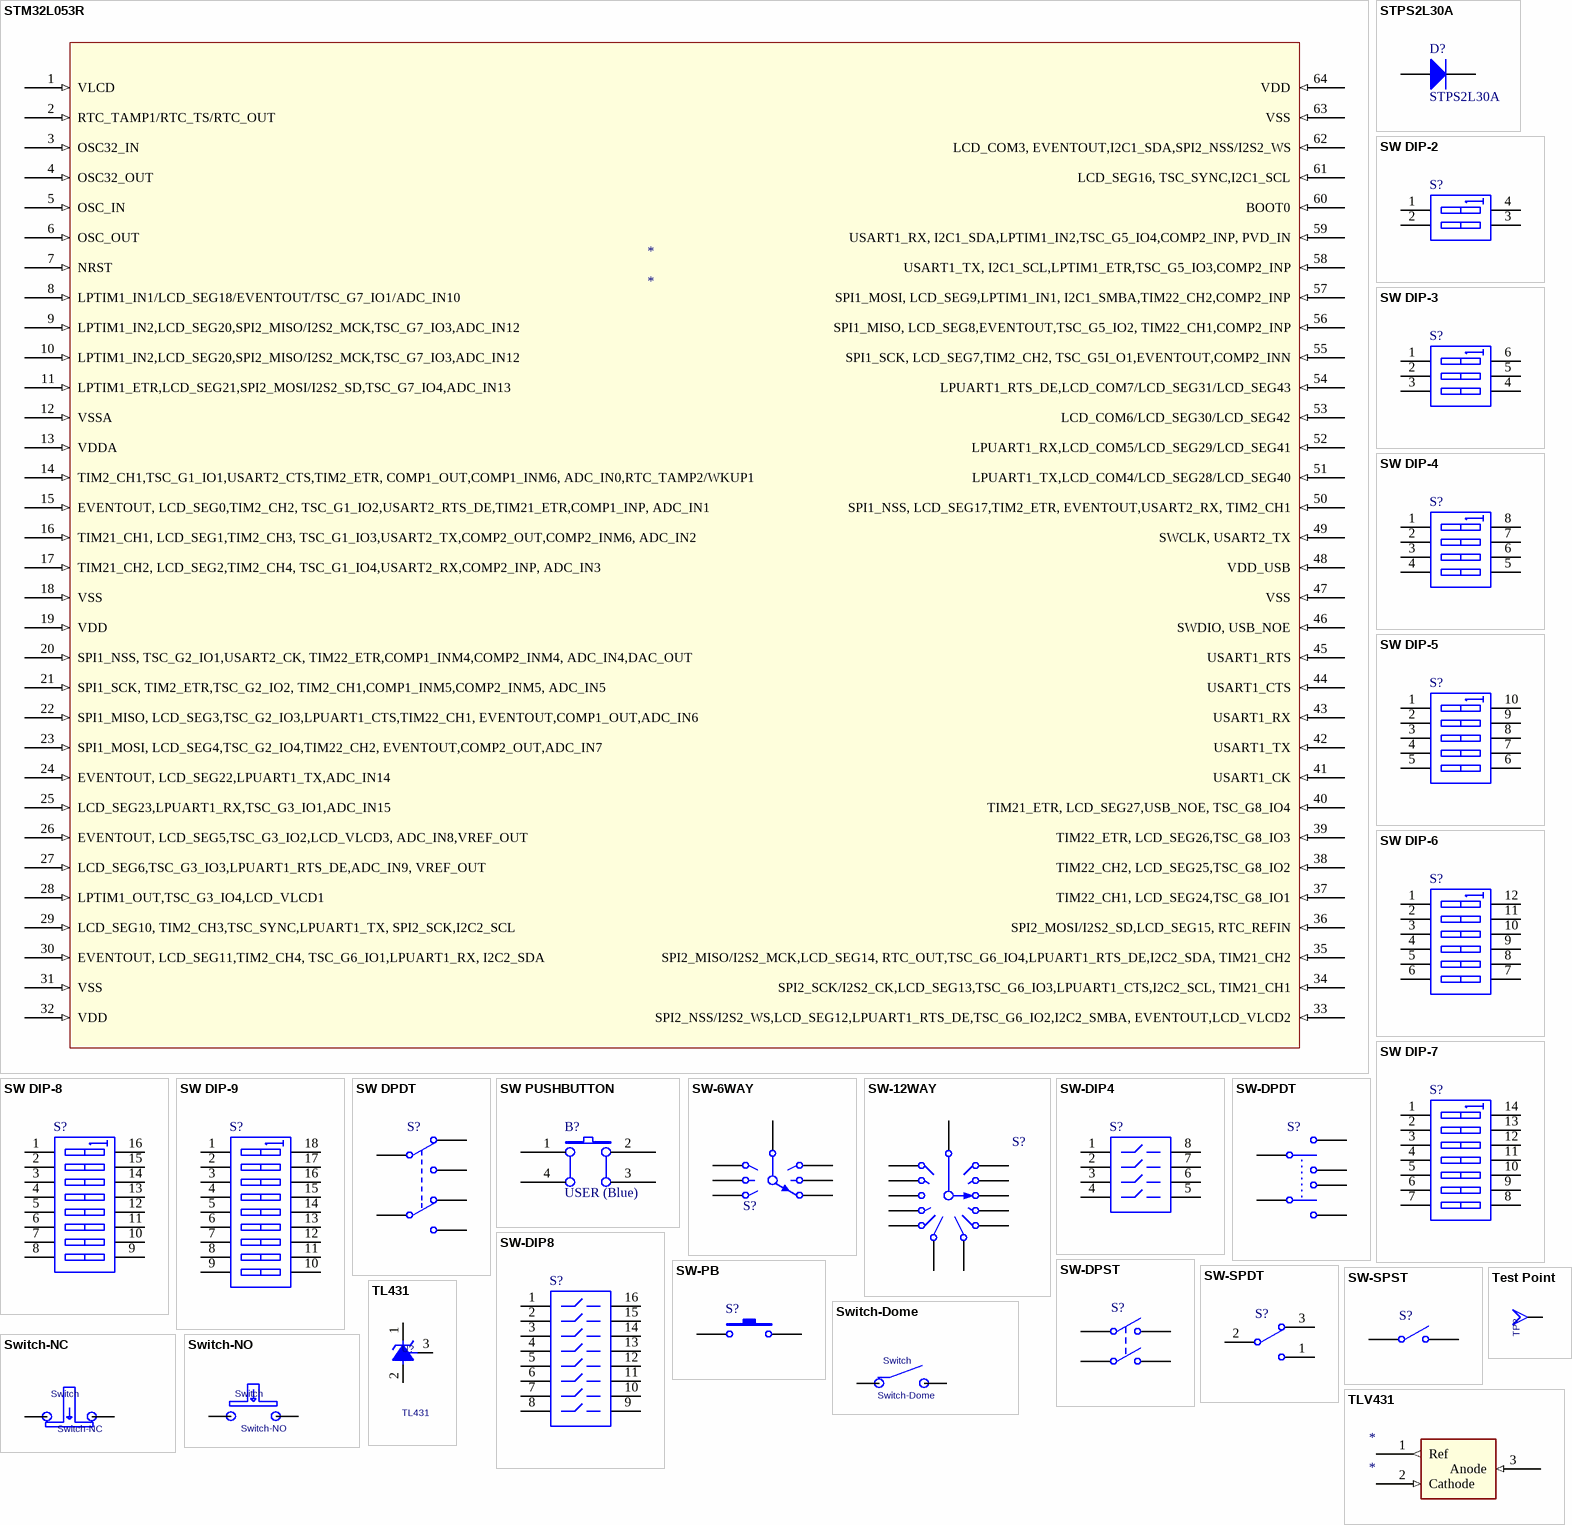
[diagram p13: symbols STM32L053R to TLV431]

## STM32L053R
designator *
pins: 1 VLCD (in), 2 RTC_TAMP1/RTC_TS/RTC_OUT (in), 3 OSC32_IN (in), 4 OSC32_OUT (in), 5 OSC_IN (in), 6 OSC_OUT (in), 7 NRST (in), 8 LPTIM1_IN1/LCD_SEG18/EVENTOUT/TSC_G7_IO1/ADC_IN10 (in), 9 LPTIM1_IN2,LCD_SEG20,SPI2_MISO/I2S2_MCK,TSC_G7_IO3,ADC_IN12 (in), 10 LPTIM1_IN2,LCD_SEG20,SPI2_MISO/I2S2_MCK,TSC_G7_IO3,ADC_IN12 (in), 11 LPTIM1_ETR,LCD_SEG21,SPI2_MOSI/I2S2_SD,TSC_G7_IO4,ADC_IN13 (in), 12 VSSA (in), 13 VDDA (in), 14 TIM2_CH1,TSC_G1_IO1,USART2_CTS,TIM2_ETR, COMP1_OUT,COMP1_INM6, ADC_IN0,RTC_TAMP2/WKUP1 (in), 15 EVENTOUT, LCD_SEG0,TIM2_CH2, TSC_G1_IO2,USART2_RTS_DE,TIM21_ETR,COMP1_INP, ADC_IN1 (in), 16 TIM21_CH1, LCD_SEG1,TIM2_CH3, TSC_G1_IO3,USART2_TX,COMP2_OUT,COMP2_INM6, ADC_IN2 (in), 17 TIM21_CH2, LCD_SEG2,TIM2_CH4, TSC_G1_IO4,USART2_RX,COMP2_INP, ADC_IN3 (in), 18 VSS (in), 19 VDD (in), 20 SPI1_NSS, TSC_G2_IO1,USART2_CK, TIM22_ETR,COMP1_INM4,COMP2_INM4, ADC_IN4,DAC_OUT (in), 21 SPI1_SCK, TIM2_ETR,TSC_G2_IO2, TIM2_CH1,COMP1_INM5,COMP2_INM5, ADC_IN5 (in), 22 SPI1_MISO, LCD_SEG3,TSC_G2_IO3,LPUART1_CTS,TIM22_CH1, EVENTOUT,COMP1_OUT,ADC_IN6 (in), 23 SPI1_MOSI, LCD_SEG4,TSC_G2_IO4,TIM22_CH2, EVENTOUT,COMP2_OUT,ADC_IN7 (in), 24 EVENTOUT, LCD_SEG22,LPUART1_TX,ADC_IN14 (in), 25 LCD_SEG23,LPUART1_RX,TSC_G3_IO1,ADC_IN15 (in), 26 EVENTOUT, LCD_SEG5,TSC_G3_IO2,LCD_VLCD3, ADC_IN8,VREF_OUT (in), 27 LCD_SEG6,TSC_G3_IO3,LPUART1_RTS_DE,ADC_IN9, VREF_OUT (in), 28 LPTIM1_OUT,TSC_G3_IO4,LCD_VLCD1 (in), 29 LCD_SEG10, TIM2_CH3,TSC_SYNC,LPUART1_TX, SPI2_SCK,I2C2_SCL (in), 30 EVENTOUT, LCD_SEG11,TIM2_CH4, TSC_G6_IO1,LPUART1_RX, I2C2_SDA (in), 31 VSS (in), 32 VDD (in), 33 SPI2_NSS/I2S2_WS,LCD_SEG12,LPUART1_RTS_DE,TSC_G6_IO2,I2C2_SMBA, EVENTOUT,LCD_VLCD2 (in), 34 SPI2_SCK/I2S2_CK,LCD_SEG13,TSC_G6_IO3,LPUART1_CTS,I2C2_SCL, TIM21_CH1 (in), 35 SPI2_MISO/I2S2_MCK,LCD_SEG14, RTC_OUT,TSC_G6_IO4,LPUART1_RTS_DE,I2C2_SDA, TIM21_CH2 (in), 36 SPI2_MOSI/I2S2_SD,LCD_SEG15, RTC_REFIN (in), 37 TIM22_CH1, LCD_SEG24,TSC_G8_IO1 (in), 38 TIM22_CH2, LCD_SEG25,TSC_G8_IO2 (in), 39 TIM22_ETR, LCD_SEG26,TSC_G8_IO3 (in), 40 TIM21_ETR, LCD_SEG27,USB_NOE, TSC_G8_IO4 (in), 41 USART1_CK (in), 42 USART1_TX (in), 43 USART1_RX (in), 44 USART1_CTS (in), 45 USART1_RTS (in), 46 SWDIO, USB_NOE (in), 47 VSS (in), 48 VDD_USB (in), 49 SWCLK, USART2_TX (in), 50 SPI1_NSS, LCD_SEG17,TIM2_ETR, EVENTOUT,USART2_RX, TIM2_CH1 (in), 51 LPUART1_TX,LCD_COM4/LCD_SEG28/LCD_SEG40 (in), 52 LPUART1_RX,LCD_COM5/LCD_SEG29/LCD_SEG41 (in), 53 LCD_COM6/LCD_SEG30/LCD_SEG42 (in), 54 LPUART1_RTS_DE,LCD_COM7/LCD_SEG31/LCD_SEG43 (in), 55 SPI1_SCK, LCD_SEG7,TIM2_CH2, TSC_G5I_O1,EVENTOUT,COMP2_INN (in), 56 SPI1_MISO, LCD_SEG8,EVENTOUT,TSC_G5_IO2, TIM22_CH1,COMP2_INP (in), 57 SPI1_MOSI, LCD_SEG9,LPTIM1_IN1, I2C1_SMBA,TIM22_CH2,COMP2_INP (in), 58 USART1_TX, I2C1_SCL,LPTIM1_ETR,TSC_G5_IO3,COMP2_INP (in), 59 USART1_RX, I2C1_SDA,LPTIM1_IN2,TSC_G5_IO4,COMP2_INP, PVD_IN (in), 60 BOOT0 (in), 61 LCD_SEG16, TSC_SYNC,I2C1_SCL (in), 62 LCD_COM3, EVENTOUT,I2C1_SDA,SPI2_NSS/I2S2_WS (in), 63 VSS (in), 64 VDD (in)

## STPS2L30A
designator D?
Provided by: STM; Order: BAT60JFILM; ECCN_US/EU: EAR99/NEC; Revision: July-2002: Re-released for DXP Platform.; Manuf_Part_1: BAT60JFILM; Manuf_1: STM; Distrib: ST; Fitted: *; Value: *
footprint SMA (Footprint not found)
pins: 1 A, 2 K

## SW DIP-2
designator S?
DIP Switch, 2 Position, SPST; Published: 24-Mar-1999; LatestRevisionDate: 17-Jul-2002; LatestRevisionNote: Re-released for DXP Platform.; PackageReference: DIP-4; Publisher: Altium Limited
footprint DIP-4 (DIP; 4 Leads; Row Spacing 7.62 mm; Pitch 2.54 mm)
simulation model dpsw2 (Spice Subcircuit)
pins: 1 A1, 2 A2, 3 B2, 4 B1

## SW DIP-3
designator S?
DIP Switch, 3 Position, SPST; Published: 24-Mar-1999; LatestRevisionDate: 17-Jul-2002; LatestRevisionNote: Re-released for DXP Platform.; PackageReference: DIP-6; Publisher: Altium Limited; Code_JEDEC: MO-001-AM
footprint DIP-6 (DIP; 6 Leads; Row Spacing 7.62 mm; Pitch 2.54 mm)
simulation model dpsw3 (Spice Subcircuit)
pins: 1 A1, 2 A2, 3 A3, 4 B3, 5 B2, 6 B1

## SW DIP-4
designator S?
DIP Switch, 4 Position, SPST; Published: 24-Mar-1999; LatestRevisionDate: 29-May-2009; LatestRevisionNote: IPC-7351 Footprint Added.; PackageVersion: Dec-2002; PackageReference: SO8; Publisher: Altium Limited; PackageDescription: 8-Pin Small Outline Integrated Circuit 1.27 mm Pitch; Code_JEDEC: MS-012-AA; Code_IPC: SOIC127P600-8
footprint SO8_N (SOIC, 8-Leads, Body 4.9x3.9mm, Pitch 1.27mm, IPC Medium Density)
footprint SO8_L (SOIC, 8-Leads, Body 4.9x3.9mm, Pitch 1.27mm, IPC High Density)
footprint SO8_M (SOIC, 8-Leads, Body 4.9x3.9mm, Pitch 1.27mm, IPC Low Density)
simulation model dpsw4 (Spice Subcircuit)
pins: 1 A1, 2 A2, 3 A3, 4 A4, 5 B4, 6 B3, 7 B2, 8 B1

## SW DIP-5
designator S?
DIP Switch, 5 Position, SPST; Published: 24-Mar-1999; LatestRevisionDate: 17-Jul-2002; LatestRevisionNote: Re-released for DXP Platform.; PackageReference: N10A; Publisher: Altium Limited
footprint N10A (DIP; 10 Leads; Row Spacing 7.62 mm; Pitch 2.54 mm)
simulation model dpsw5 (Spice Subcircuit)
pins: 1 A1, 2 A2, 3 A3, 4 A4, 5 A5, 6 B5, 7 B4, 8 B3, 9 B2, 10 B1

## SW DIP-6
designator S?
DIP Switch, 6 Position, SPST; Published: 24-Mar-1999; LatestRevisionDate: 17-Jul-2002; LatestRevisionNote: Re-released for DXP Platform.; PackageReference: DIP-12/SW; Publisher: Altium Limited; PackageDescription: DIP Switch; 12 Leads
footprint DIP-12/SW (DIP Switch; 12 Leads)
simulation model dpsw6 (Spice Subcircuit)
pins: 1 A1, 2 A2, 3 A3, 4 A4, 5 A5, 6 A6, 7 B6, 8 B5, 9 B4, 10 B3, 11 B2, 12 B1

## SW DIP-7
designator S?
DIP Switch, 7 Position, SPST; Published: 24-Mar-1999; LatestRevisionDate: 17-Jul-2002; LatestRevisionNote: Re-released for DXP Platform.; PackageReference: DIP-14; Publisher: Altium Limited; Code_JEDEC: MO-001-AF
footprint DIP-14 (DIP; 14 Leads; Row Spacing 7.62 mm; Pitch 2.54 mm)
simulation model dpsw7 (Spice Subcircuit)
pins: 1 A1, 2 A2, 3 A3, 4 A4, 5 A5, 6 A6, 7 A7, 8 B7, 9 B6, 10 B5, 11 B4, 12 B3, 13 B2, 14 B1

## SW DIP-8
designator S?
DIP Switch, 8 Position, SPST; Published: 24-Mar-1999; LatestRevisionDate: 17-Jul-2002; LatestRevisionNote: Re-released for DXP Platform.; PackageReference: DIP_SW_8WAY_SMD; Publisher: Altium Limited; PackageDescription: DIP Switch; 16 Leads
footprint DIP_SW_8WAY_SMD (DIP Switch; 16 Leads)
simulation model dpsw8 (Spice Subcircuit)
pins: 1 A1, 2 A2, 3 A3, 4 A4, 5 A5, 6 A6, 7 A7, 8 A8, 9 B8, 10 B7, 11 B6, 12 B5, 13 B4, 14 B3, 15 B2, 16 B1

## SW DIP-9
designator S?
DIP Switch, 9 Position, SPST; Published: 24-Mar-1999; LatestRevisionDate: 17-Jul-2002; LatestRevisionNote: Re-released for DXP Platform.; PackageReference: DIP-18; Publisher: Altium Limited; Code_JEDEC: MO-036-AE
footprint DIP-18 (DIP; 18 Leads; Row Spacing 7.62 mm; Pitch 2.54 mm)
simulation model dpsw9 (Spice Subcircuit)
pins: 1 A1, 2 A2, 3 A3, 4 A4, 5 A5, 6 A6, 7 A7, 8 A8, 9 A9, 10 B9, 11 B8, 12 B7, 13 B6, 14 B5, 15 B4, 16 B3, 17 B2, 18 B1

## SW DPDT
designator S?
Switch; Published: 24-Mar-1999; LatestRevisionDate: 29-May-2009; LatestRevisionNote: IPC-7351 Footprint Added.; PackageVersion: Mar-2001; PackageReference: SOT23-6; Publisher: Altium Limited; PackageDescription: 6-Pin SOT-23 Package 0.95 mm Pitch, 2.7 mm Lead Span; Code_JEITA: SC-74; Code_IPC: SOT26A-6
footprint SOT23-6_N (SOT23, 6-Leads, Body 2.9x1.6mm, Pitch 0.95mm, Lead Span 2.7mm, IPC Medium Density)
footprint SOT23-6_L (SOT23, 6-Leads, Body 2.9x1.6mm, Pitch 0.95mm, Lead Span 2.7mm, IPC High Density)
footprint SOT23-6_M (SOT23, 6-Leads, Body 2.9x1.6mm, Pitch 0.95mm, Lead Span 2.7mm, IPC Low Density)
pins: 1 COMMON1, 2 NC1, 3 NO1, 4 NC2, 5 COMMON2, 6 NO2

## SW PUSHBUTTON
designator B?, comment USER (Blue)
SE PUSHBUTTON; Manufacturer: wealthmetal; Manufacturer P/N: TD0341X-G01-BLU; Provided by: Subcon; ECCN_US/UE: *; Fitted: *; Order Code Digikey: *; Order Code Farnell: *; Order Code RS: *; Value: *
footprint PB (Footprint not found)
footprint BP1CMS
footprint PB10 (Footprint not found)
pins: 1 A0, 2 B0, 3 B1, 4 A1

## SW-6WAY
designator S?
6 Way Switch; Published: 24-Mar-1999; LatestRevisionDate: 17-Jul-2002; LatestRevisionNote: Re-released for DXP Platform.; PackageReference: SW-7; Publisher: Altium Limited; PackageDescription: Switch; 7 Leads
footprint SW-7 (Switch; 7 Leads)
pins: 1, 2, 3, 4, 5, 6, 7

## SW-12WAY
designator S?
12 Way Switch; Published: 24-Mar-1999; LatestRevisionDate: 17-Jul-2002; LatestRevisionNote: Re-released for DXP Platform.; PackageReference: DIP-13(14); Publisher: Altium Limited
footprint DIP-13(14) (DIP; 14 Leads (1 Absent); Row Spacing 7.62 mm; Pitch 2.54 mm)
pins: 1, 2, 3, 5, 6, 7, 8, 9, 10, 11, 12, 13, 14

## SW-DIP4
designator S?
DIP Switch; Published: 24-Mar-1999; LatestRevisionDate: 17-Jul-2002; LatestRevisionNote: Re-released for DXP Platform.; PackageReference: DIP-8; Publisher: Altium Limited
footprint DIP-8 (DIP; 8 Leads; Row Spacing 7.62 mm; Pitch 2.54 mm)
simulation model dpsw4 (Spice Subcircuit)
pins: 1, 2, 3, 4, 5, 6, 7, 8

## SW-DIP8
designator S?
4009 Series DIP Switch, Raised actuator; Published: 24-Mar-1999; LatestRevisionDate: 17-Dec-2003; LatestRevisionNote: PCB Footprint replaced.; PackageReference: DIP-16-KEY; Publisher: Altium Limited; PackageDescription: DIP; 16 Leads; Row Spacing 7.62 mm; Pitch 2.54 mm; ComponentLink1Description: Manufacturer Link; ComponentLink1URL: http://www.oupiin.com/prodindx.html#Headers
footprint DIP-16-KEY (DIP; 16 Leads; Row Spacing 7.62 mm; Pitch 2.54 mm)
simulation model dpsw8 (Spice Subcircuit)
pins: 1, 2, 3, 4, 5, 6, 7, 8, 9, 10, 11, 12, 13, 14, 15, 16

## SW-DPDT
designator S?
Double-Pole, Double-Throw Switch; Published: 24-Mar-1999; LatestRevisionDate: 17-Jul-2002; LatestRevisionNote: Re-released for DXP Platform.; PackageReference: DPDT-6; Publisher: Altium Limited; PackageDescription: Switch; 6 Leads
footprint DPDT-6 (Switch; 6 Leads)
pins: 1, 2, 3, 4, 5, 6

## SW-DPST
designator S?
Double-Pole, Single-Throw Switch; Published: 24-Mar-1999; LatestRevisionDate: 17-Jul-2002; LatestRevisionNote: Re-released for DXP Platform.; PackageReference: DPST-4; Publisher: Altium Limited; PackageDescription: Switch; 4 Leads
footprint DPST-4 (Switch; 4 Leads)
pins: 1 COMMON1, 2 NO1, 3 COMMON2, 4 NO2

## SW-PB
designator S?
Switch; Published: 24-Mar-1999; LatestRevisionDate: 17-Jul-2002; LatestRevisionNote: Re-released for DXP Platform.; PackageReference: SPST-2; Publisher: Altium Limited; PackageDescription: Switch; 2 Leads
footprint SPST-2 (Switch; 2 Leads)
pins: 1, 2

## SW-SPDT
designator S?
SPDT Subminiature Toggle Switch, Right Angle Mounting, Vertical Actuation; Published: 24-Mar-1999; LatestRevisionDate: 17-Dec-2003; LatestRevisionNote: Schematic revised, PCB Footprint replaced.; DatasheetVersion: 05-Dec-2000; PackageReference: TL36WW15050; Publisher: Altium Limited; PackageDescription: Switch; 4 Leads; ComponentLink1Description: Manufacturer Link; ComponentLink1URL: http://www.apem.com
footprint TL36WW15050 (Switch; 4 Leads)
pins: 1, 2, 3

## SW-SPST
designator S?
Single-Pole, Single-Throw Switch; Published: 24-Mar-1999; LatestRevisionDate: 17-Jul-2002; LatestRevisionNote: Re-released for DXP Platform.; PackageReference: SPST-2; Publisher: Altium Limited; PackageDescription: Switch; 2 Leads
footprint SPST-2 (Switch; 2 Leads)
pins: 1 COMMON, 2 NO

## Switch-Dome
designator Switch
footprint Dome 7MM (KeyBoard Dome 7MM)
pins: 3, 4

## Switch-NC
designator Switch
pins: 1, 2

## Switch-NO
designator Switch
pins: 1, 2

## Test Point
designator TP?, comment TP  (value not drawn)
footprint TP (TestPoint)
pins: 1 "TEST POINT"

## TL431
designator U?
pins: 1 C, 2 A, 3 REF

## TLV431
designator *
pins: 1 Ref (out), 2 Cathode (in), 3 Anode (in)

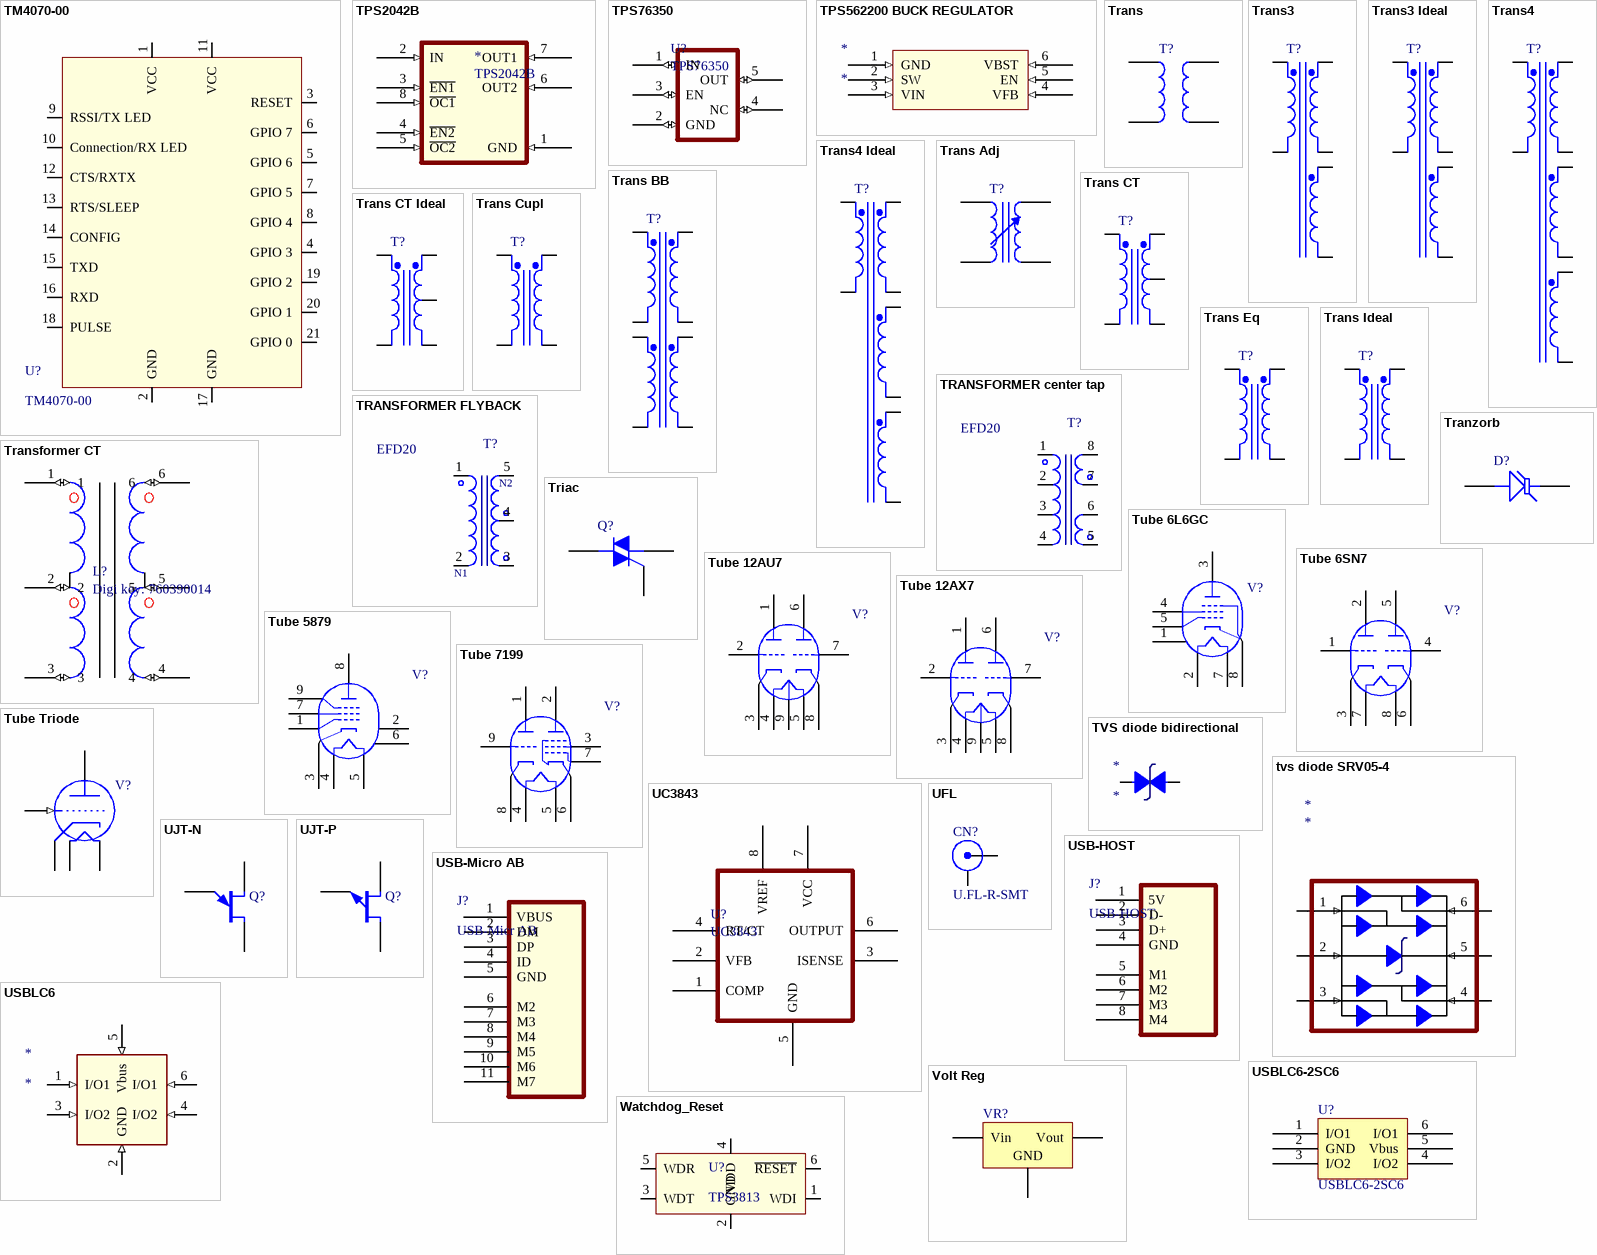
[diagram p14: symbols TM4070-00 to Watchdog_Reset]

## TM4070-00
designator U?
pins: 1 VCC (power), 2 GND (power), 3 RESET (power), 4 GPIO 3 (power), 5 GPIO 6 (power), 6 GPIO 7 (power), 7 GPIO 5 (power), 8 GPIO 4 (power), 9 RSSI/TX LED (power), 10 Connection/RX LED (power), 11 VCC (power), 12 CTS/RXTX (power), 13 RTS/SLEEP (power), 14 CONFIG (power), 15 TXD (power), 16 RXD (power), 17 GND (power), 18 PULSE (power), 19 GPIO 2 (power), 20 GPIO 1 (power), 21 GPIO 0 (power)

## TPS2042B
designator *
Current-Limited Power-Distribution Switches
pins: 1 GND (in), 2 IN (in), 3 ~{EN1} (in), 4 ~{EN2} (in), 5 ~{OC2} (in), 6 OUT2 (in), 7 OUT1 (in), 8 ~{OC1} (in)

## TPS76350
designator U?
5V LDO
pins: 1 IN (io), 2 GND (io), 3 EN (io), 4 NC (io), 5 OUT (io)

## TPS562200 BUCK REGULATOR
designator *
pins: 1 GND (in), 2 SW (in), 3 VIN (in), 4 VFB (in), 5 EN (in), 6 VBST (in)

## Trans
designator T?
Transformer; Published: 24-Mar-1999; LatestRevisionDate: 08-Jul-2005; LatestRevisionNote: Mech Layer 1 removed.; PackageReference: TRANS; Publisher: Altium Limited; PackageDescription: Transformer; 4 Leads
footprint TRANS (Transformer; 4 Leads)
simulation model TRANSFORMER (Transformer)
pins: 1, 2, 3, 4

## Trans3
designator T?
Three-winding Transformer (Non-Ideal); Sim Note: Enter the turns ratios, Core loss resistance, Magnetising Reactance, Leakage Reactances and Resistances referred to the primary side into the parameter fields.; Published: 25-Jan-2001; LatestRevisionDate: 17-Jul-2002; LatestRevisionNote: Re-released for DXP Platform.; PackageReference: TRF_6; Publisher: Altium Limited; PackageDescription: Transformer; 6 Leads
footprint TRF_6 (Transformer; 6 Leads)
simulation model NI3WTRANS (Spice Subcircuit)
pins: 1 Pri+, 2 Pri-, 3 Sec1+, 4 Sec1-, 5 Sec2+, 6 Sec2-

## Trans3 Ideal
designator T?
Three-winding Transformer (Ideal); Published: 25-Jan-2001; LatestRevisionDate: 17-Jul-2002; LatestRevisionNote: Re-released for DXP Platform.; PackageReference: TRF_6; Publisher: Altium Limited; PackageDescription: Transformer; 6 Leads
footprint TRF_6 (Transformer; 6 Leads)
simulation model IDEAL3W (Spice Subcircuit)
pins: 1 Pri+, 2 Pri-, 3 Sec1+, 4 Sec1-, 5 Sec2+, 6 Sec2-

## Trans4
designator T?
Four-winding Transformer (Non-Ideal); Sim Note: Enter the turns ratios, Core loss resistance, Magnetising Reactance, Leakage Reactances and Resistances referred to the primary side into the parameter fields.; Published: 25-Jan-2001; LatestRevisionDate: 17-Jul-2002; LatestRevisionNote: Re-released for DXP Platform.; PackageReference: TRF_8; Publisher: Altium Limited; PackageDescription: Transformer; 8 Leads
footprint TRF_8 (Transformer; 8 Leads)
simulation model NI4WTRANS (Spice Subcircuit)
pins: 1 Pri+, 2 Pri-, 3 Sec1+, 4 Sec1-, 5 Sec2+, 6 Sec2-, 7 Sec3+, 8 Sec3-

## Trans4 Ideal
designator T?
Four-winding Transformer (Ideal); Published: 25-Jan-2001; LatestRevisionDate: 17-Jul-2002; LatestRevisionNote: Re-released for DXP Platform.; PackageReference: TRF_8; Publisher: Altium Limited; PackageDescription: Transformer; 8 Leads
footprint TRF_8 (Transformer; 8 Leads)
simulation model IDEAL4W (Spice Subcircuit)
pins: 1 Pri+, 2 Pri-, 3 Sec1+, 4 Sec1-, 5 Sec2+, 6 Sec2-, 7 Sec3+, 8 Sec3-

## Trans Adj
designator T?
Variable Transformer; Published: 24-Mar-1999; LatestRevisionDate: 17-Jul-2002; LatestRevisionNote: Re-released for DXP Platform.; PackageReference: TRF_4; Publisher: Altium Limited; PackageDescription: Transformer; 4 Leads
footprint TRF_4 (Transformer; 4 Leads)
simulation model TRANSFORMER (Transformer)
pins: 1, 2, 3, 4

## Trans BB
designator T?
Buck-boost Transformer (Ideal); Published: 25-Jan-2001; LatestRevisionDate: 17-Jul-2002; LatestRevisionNote: Re-released for DXP Platform.; PackageReference: TRF_8; Publisher: Altium Limited; PackageDescription: Transformer; 8 Leads
footprint TRF_8 (Transformer; 8 Leads)
simulation model IDEAL4W (Spice Subcircuit)
pins: 1 Pri1+, 2 Pri1-, 3 Pri2+, 4 Pri2-, 5 Sec1+, 6 Sec1-, 7 Sec2+, 8 Sec2-

## Trans CT
designator T?
Center-Tapped Transformer (Coupled Inductor Model); Published: 8-Jun-2000; LatestRevisionDate: 17-Jul-2002; LatestRevisionNote: Re-released for DXP Platform.; PackageReference: TRF_5; Publisher: Altium Limited; PackageDescription: Transformer; 5 Leads
footprint TRF_5 (Transformer; 5 Leads)
simulation model TRANSFORMER (Transformer)
pins: 1 Pri+, 2 Pri-, 3 Sec+, 4 SecCT, 5 Sec-